# EAGLE library part 61001011921 (library Board-to-Board (rev18a))
WR-PHD 2.54mm SMT Socket Header, 10 Pins=>Code : CON_BTB_SHD_2.54_1_SMT_61001011921 <http://katalog.we-online.de/media/images/eican/Con_BTB_SHD_2.54_1_SMT_6100xx11921_pf2.jpg> Details see: http://katalog.we-online.de/en/em/PHD_2_54_SMT_SOCKET_HEADER_6100XXXXX21 Created 2014-05-30, Karrer Zheng 2014 (C) Würth Elektronik
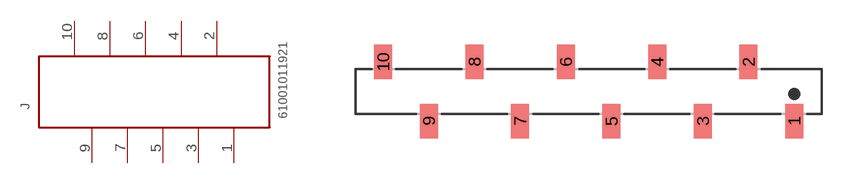
[diagram p188: symbol with the pads of 61001011921; footprint 61001011921]

Designator prefix J

## 61001011921  [61001011921]
1  1  pas
2  2  pas
3  3  pas
4  4  pas
5  5  pas
6  6  pas
7  7  pas
8  8  pas
9  9  pas
10  10  pas

## Footprint 61001011921 (pad centres in mm)
WR-PHD 2.54mm SMT Socket Header, 10 Pins
smd 1 x 1.91: 1 11.43,-1.645; 2 8.89,1.645; 3 6.35,-1.645; 4 3.81,1.645; 5 1.27,-1.645; 6 -1.27,1.645; 7 -3.81,-1.645; 8 -6.35,1.645; 9 -8.89,-1.645; 10 -11.43,1.645